# Altium schematic symbol library 3-641208-3.SchLib: 1 symbol
Pins are listed as number, name and electrical type; pins without a type are passive.

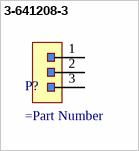
[diagram p0: symbol 3-641208-3]

## 3-641208-3
designator P?
=Description
pins: 1, 2 (power), 3 (power)